# EAGLE library part L6387ED (library Bits_library_eagle 9x)
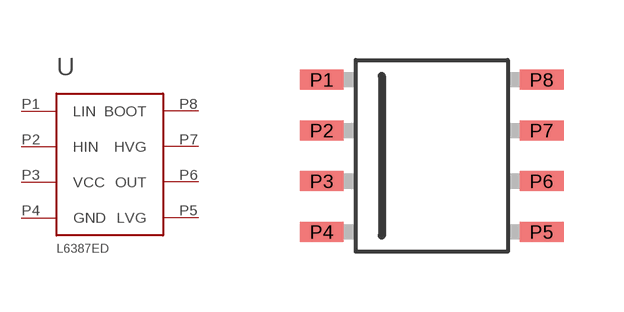
[diagram p6: symbol with the pads of SO-8; footprint SO-8]

Designator prefix -

## L6387ED  [SO-8]
P1  LIN
P2  HIN
P3  VCC  pwr
P4  GND  pwr
P5  LVG
P6  OUT
P7  HVG
P8  BOOT

## Footprint SO-8 (pad centres in mm)
smd 1.1 x 0.5: P1 -2.75,1.905; P2 -2.75,0.635; P3 -2.75,-0.635; P4 -2.75,-1.905; P5 2.75,-1.905; P6 2.75,-0.635; P7 2.75,0.635; P8 2.75,1.905